# Altium integrated library TI_Logic_Specialty_Logic.IntLib: 2504 symbols (part 21 of 81)
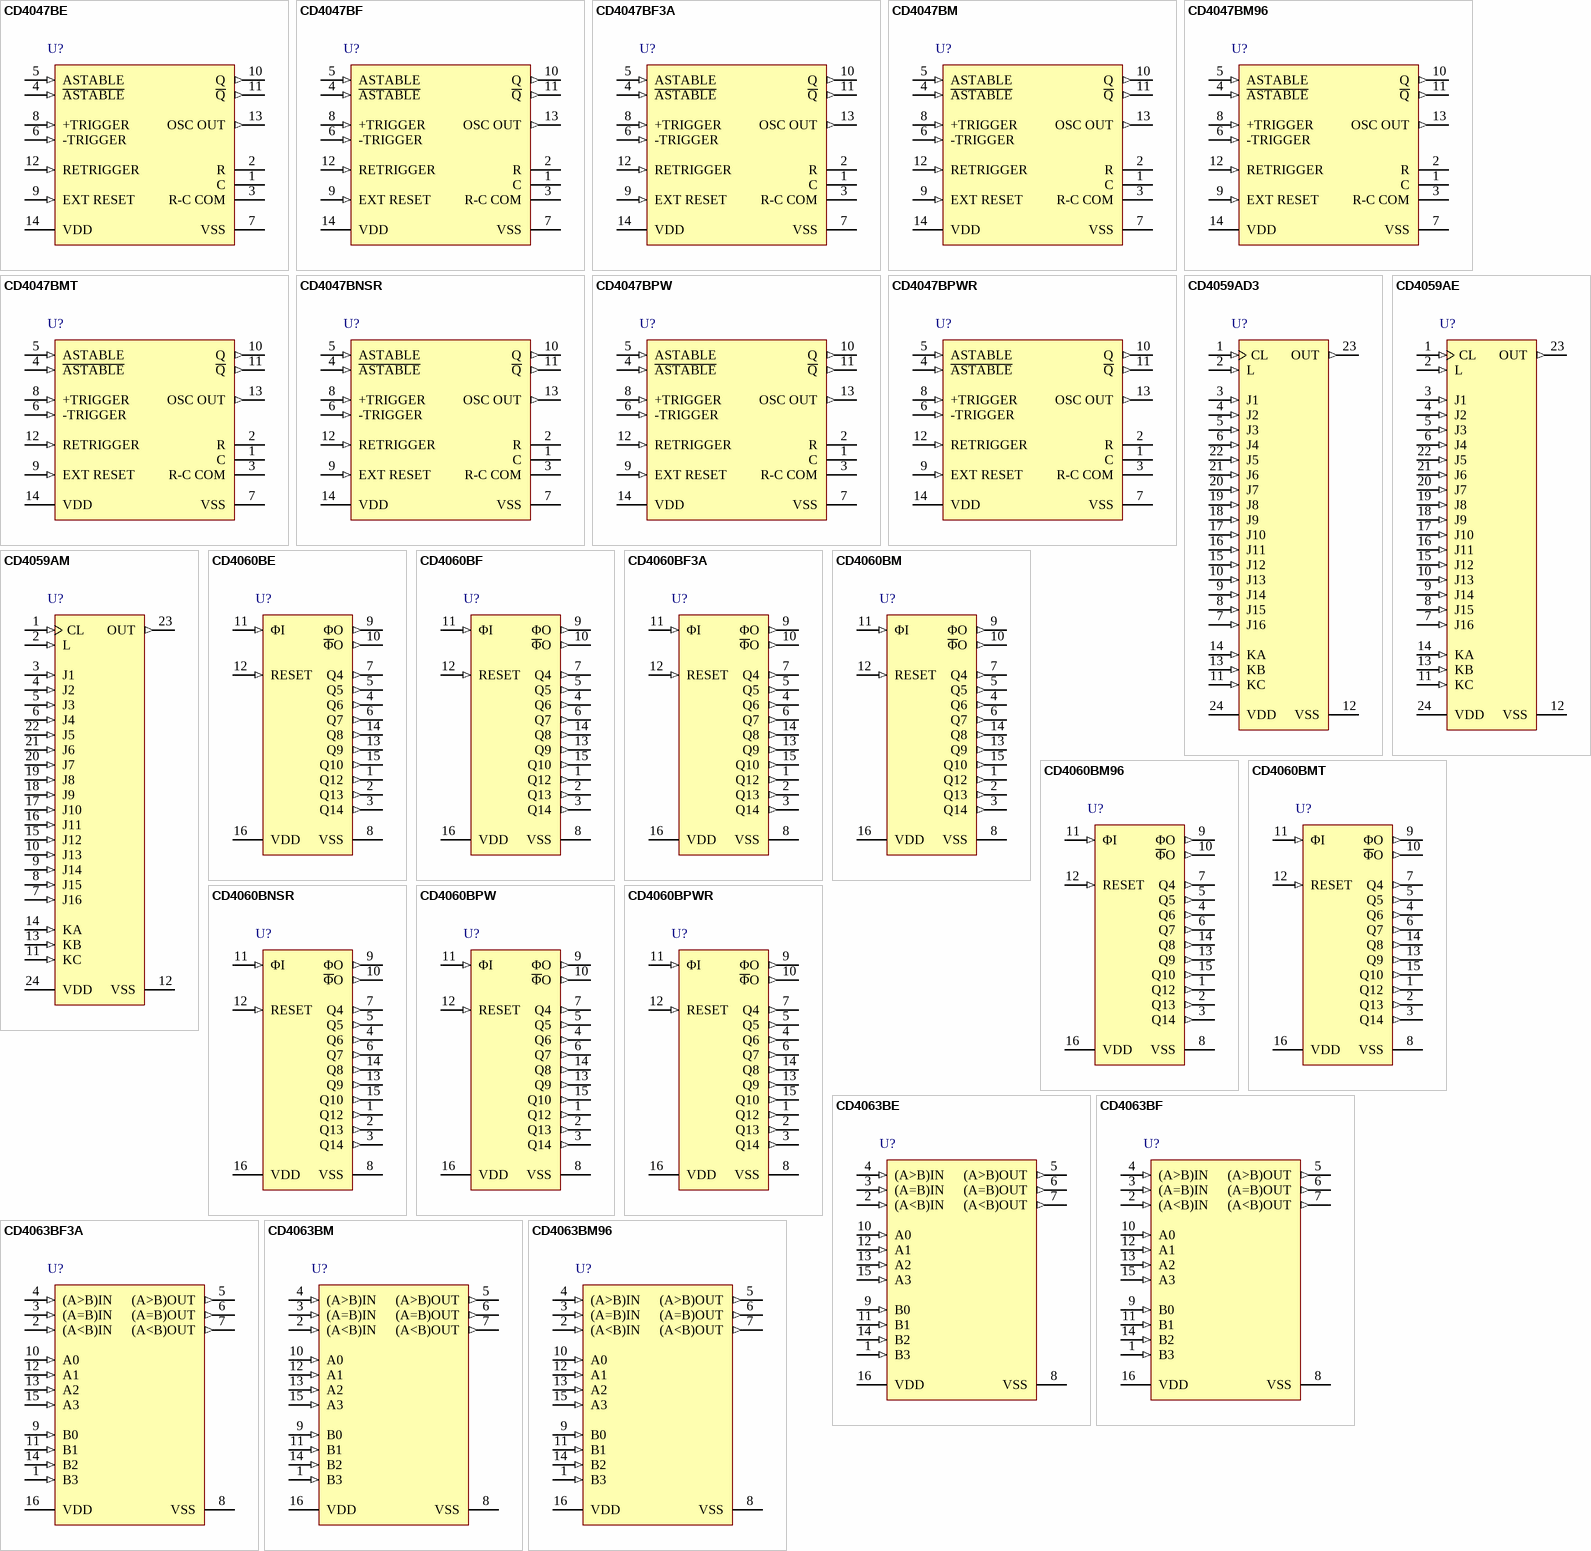
[diagram p124: symbols CD4047BE to CD4063BM96]

## CD4047BMT
designator U?
CMOS Low-Power Monostable/Astable Multivibrator, D0014A, SMALL T&R; Generic Part Number: CD4047B; Manufacturer: Texas Instruments; PartNumber: CD4047BMT; VCC(Max)(V): 18; VCC(Min)(V): 3; ICC @ Nom Voltage(Max)(mA): 0.06; Bits(#): 1; F @ Nom Voltage(Max)(Mhz): 8; Rating: Military; Technology Family: CD4000; Voltage(Nom)(V): 10; Output Drive (IOL/IOH)(Max)(mA): 4/-4; tpd @ Nom Voltage(Max)(ns): 450; DatasheetVersion: SCHS044C; PackageReference: D0014A; Supplier 1: Mouser; Supplier Part Number 1: 595-CD4047BMT; Supplier 2: Digi-Key; Supplier Part Number 2: CD4047BMT-ND; Output Type: CMOS; Input Type: CMOS; Operating Temperature Range(C): -55 to 125; Code_JEDEC: MS-012; ComponentLink1Description: Manufacturer URL; ComponentLink1URL: http://www.ti.com/; ComponentLink2Description: Datasheet; ComponentLink2URL: http://www.ti.com/lit/ds/symlink/cd4047b.pdf; ComponentLink3Description: Package Specification; ComponentLink3URL: http://www.ti.com/lit/ml/mpds177g/mpds177g.pdf
footprint D0014A_N (SOIC, 14-Leads, Body 8.75x4mm, Pitch 1.27mm, IPC Medium Density)
footprint D0014A_M (SOIC, 14-Leads, Body 8.75x4mm, Pitch 1.27mm, IPC Low Density)
footprint D0014A_L (SOIC, 14-Leads, Body 8.75x4mm, Pitch 1.27mm, IPC High Density)
pins: 1 C, 2 R, 3 R-C COM, 4 ~{ASTABLE} (in), 5 ASTABLE (in), 6 -TRIGGER (in), 7 VSS (power), 8 +TRIGGER (in), 9 EXT RESET (in), 10 Q (out), 11 ~{Q} (out), 12 RETRIGGER (in), 13 OSC OUT (out), 14 VDD (power)

## CD4047BNSR
designator U?
CMOS Low-Power Monostable/Astable Multivibrator, NS0014A, LARGE T&R; Generic Part Number: CD4047B; Manufacturer: Texas Instruments; PartNumber: CD4047BNSR; VCC(Max)(V): 18; VCC(Min)(V): 3; ICC @ Nom Voltage(Max)(mA): 0.06; Bits(#): 1; F @ Nom Voltage(Max)(Mhz): 8; Rating: Military; Technology Family: CD4000; Voltage(Nom)(V): 10; Output Drive (IOL/IOH)(Max)(mA): 4/-4; tpd @ Nom Voltage(Max)(ns): 450; DatasheetVersion: SCHS044C; PackageReference: NS0014A; Supplier 1: Mouser; Supplier Part Number 1: 595-CD4047BNSR; Supplier 2: Digi-Key; Supplier Part Number 2: 296-14110-2-ND; Supplier 3: Digi-Key; Supplier Part Number 3: 296-14110-1-ND; Supplier 4: Digi-Key; Supplier Part Number 4: 296-14110-6-ND; Output Type: CMOS; Input Type: CMOS; Operating Temperature Range(C): -55 to 125; ComponentLink1Description: Manufacturer URL; ComponentLink1URL: http://www.ti.com/; ComponentLink2Description: Datasheet; ComponentLink2URL: http://www.ti.com/lit/ds/symlink/cd4047b.pdf; ComponentLink3Description: Package Specification; ComponentLink3URL: http://www.ti.com/lit/ml/msop002a/msop002a.pdf
footprint NS0014A_N (SOIC,14-Leads,Body 10.5x5.6mm,Pitch 1.27mm,IPC Medium Density)
footprint NS0014A_M (SOIC,14-Leads,Body 10.5x5.6mm,Pitch 1.27mm,IPC Low Density)
footprint NS0014A_L (SOIC,14-Leads,Body 10.5x5.6mm,Pitch 0.4mm,IPC High Density)
pins: 1 C, 2 R, 3 R-C COM, 4 ~{ASTABLE} (in), 5 ASTABLE (in), 6 -TRIGGER (in), 7 VSS (power), 8 +TRIGGER (in), 9 EXT RESET (in), 10 Q (out), 11 ~{Q} (out), 12 RETRIGGER (in), 13 OSC OUT (out), 14 VDD (power)

## CD4047BPW
designator U?
CMOS Low-Power Monostable/Astable Multivibrator, PW0014A, TUBE; Generic Part Number: CD4047B; Manufacturer: Texas Instruments; PartNumber: CD4047BPW; VCC(Max)(V): 18; VCC(Min)(V): 3; ICC @ Nom Voltage(Max)(mA): 0.06; Bits(#): 1; F @ Nom Voltage(Max)(Mhz): 8; Rating: Military; Technology Family: CD4000; Voltage(Nom)(V): 10; Output Drive (IOL/IOH)(Max)(mA): 4/-4; tpd @ Nom Voltage(Max)(ns): 450; DatasheetVersion: SCHS044C; PackageReference: PW0014A; Supplier 1: Mouser; Supplier Part Number 1: 595-CD4047BPW; Supplier 2: Digi-Key; Supplier Part Number 2: 296-32890-5-ND; Output Type: CMOS; Input Type: CMOS; Operating Temperature Range(C): -55 to 125; Code_JEDEC: MO-153; ComponentLink1Description: Manufacturer URL; ComponentLink1URL: http://www.ti.com/; ComponentLink2Description: Datasheet; ComponentLink2URL: http://www.ti.com/lit/ds/symlink/cd4047b.pdf; ComponentLink3Description: Package Specification; ComponentLink3URL: http://www.ti.com/lit/ml/mpds360/mpds360.pdf
footprint PW0014A_N (SOP, 14-Leads, Body 5.1x4.5mm, Pitch 0.65mm, IPC Medium Density)
footprint PW0014A_M (SOP, 14-Leads, Body 5.1x4.5mm, Pitch 0.65mm, IPC Low Density)
footprint PW0014A_L (SOP, 14-Leads, Body 5.1x4.5mm, Pitch 0.65mm, IPC High Density)
pins: 1 C, 2 R, 3 R-C COM, 4 ~{ASTABLE} (in), 5 ASTABLE (in), 6 -TRIGGER (in), 7 VSS (power), 8 +TRIGGER (in), 9 EXT RESET (in), 10 Q (out), 11 ~{Q} (out), 12 RETRIGGER (in), 13 OSC OUT (out), 14 VDD (power)

## CD4047BPWR
designator U?
CMOS Low-Power Monostable/Astable Multivibrator, PW0014A, LARGE T&R; Generic Part Number: CD4047B; Manufacturer: Texas Instruments; PartNumber: CD4047BPWR; VCC(Max)(V): 18; VCC(Min)(V): 3; ICC @ Nom Voltage(Max)(mA): 0.06; Bits(#): 1; F @ Nom Voltage(Max)(Mhz): 8; Rating: Military; Technology Family: CD4000; Voltage(Nom)(V): 10; Output Drive (IOL/IOH)(Max)(mA): 4/-4; tpd @ Nom Voltage(Max)(ns): 450; DatasheetVersion: SCHS044C; PackageReference: PW0014A; Supplier 1: Mouser; Supplier Part Number 1: 595-CD4047BPWR; Supplier 2: Digi-Key; Supplier Part Number 2: 296-13642-2-ND; Supplier 3: Digi-Key; Supplier Part Number 3: 296-13642-1-ND; Supplier 4: Digi-Key; Supplier Part Number 4: 296-13642-6-ND; Output Type: CMOS; Input Type: CMOS; Operating Temperature Range(C): -55 to 125; Code_JEDEC: MO-153; ComponentLink1Description: Manufacturer URL; ComponentLink1URL: http://www.ti.com/; ComponentLink2Description: Datasheet; ComponentLink2URL: http://www.ti.com/lit/ds/symlink/cd4047b.pdf; ComponentLink3Description: Package Specification; ComponentLink3URL: http://www.ti.com/lit/ml/mpds360/mpds360.pdf
footprint PW0014A_N (SOP, 14-Leads, Body 5.1x4.5mm, Pitch 0.65mm, IPC Medium Density)
footprint PW0014A_M (SOP, 14-Leads, Body 5.1x4.5mm, Pitch 0.65mm, IPC Low Density)
footprint PW0014A_L (SOP, 14-Leads, Body 5.1x4.5mm, Pitch 0.65mm, IPC High Density)
pins: 1 C, 2 R, 3 R-C COM, 4 ~{ASTABLE} (in), 5 ASTABLE (in), 6 -TRIGGER (in), 7 VSS (power), 8 +TRIGGER (in), 9 EXT RESET (in), 10 Q (out), 11 ~{Q} (out), 12 RETRIGGER (in), 13 OSC OUT (out), 14 VDD (power)

## CD4059AD3
designator U?
CMOS Programmable Divide-by-N Counter, JD0024A, TUBE; Generic Part Number: CD4059A-MIL; Manufacturer: Texas Instruments; PartNumber: CD4059AD3; VCC(Max)(V): 18; VCC(Min)(V): 3; Inputs: 1; ICC @ Nom Voltage(Max)(mA): 0.03; F @ Nom Voltage(Max)(Mhz): 8; Rating: Military; Technology Family: CD4000; Voltage(Nom)(V): 10; Schmitt Trigger: No; Output Drive (IOL/IOH)(Max)(mA): 1.5/-1.5; tpd @ Nom Voltage(Max)(ns): 180; DatasheetVersion: SCHS109B; PackageReference: JD0024A; Output Type: CMOS; Function: Counter; Input Type: CMOS; Bits(#): 1; Operating Temperature Range(C): -55 to 125; Type: Other; ComponentLink1Description: Manufacturer URL; ComponentLink1URL: http://www.ti.com/; ComponentLink2Description: Datasheet; ComponentLink2URL: http://www.ti.com/lit/ds/symlink/cd4059a-mil.pdf; ComponentLink3Description: Package Specification; ComponentLink3URL: http://www.ti.com/lit/ds/symlink/sn54hc04-die.pdf
footprint JD0024A (DIP, 24-Leads, Body 7.2x27.95mm, Pitch 2.54mm)
pins: 1 CL (in), 2 L (in), 3 J1 (in), 4 J2 (in), 5 J3 (in), 6 J4 (in), 7 J16 (in), 8 J15 (in), 9 J14 (in), 10 J13 (in), 11 KC (in), 12 VSS (power), 13 KB (in), 14 KA (in), 15 J12 (in), 16 J11 (in), 17 J10 (in), 18 J9 (in), 19 J8 (in), 20 J7 (in), 21 J6 (in), 22 J5 (in), 23 OUT (out), 24 VDD (power)

## CD4059AE
designator U?
CMOS Programmable Divide-by-N Counter, N0024A, TUBE; Generic Part Number: CD4059A; Manufacturer: Texas Instruments; PartNumber: CD4059AE; VCC(Max)(V): 18; VCC(Min)(V): 3; Inputs: 1; ICC @ Nom Voltage(Max)(mA): 0.03; F @ Nom Voltage(Max)(Mhz): 8; Rating: Catalog; Technology Family: CD4000; Voltage(Nom)(V): 5,10,15; Schmitt Trigger: No; Output Drive (IOL/IOH)(Max)(mA): 1.5/-1.5; tpd @ Nom Voltage(Max)(ns): 180; DatasheetVersion: SCHS109B; PackageReference: N0024A; Supplier 1: Mouser; Supplier Part Number 1: 595-CD4059AE; Supplier 2: Digi-Key; Supplier Part Number 2: 296-3515-5-ND; Output Type: CMOS; Function: Counter; Input Type: CMOS; Bits(#): 1; Operating Temperature Range(C): -55 to 125; Type: Other; Code_JEDEC: MS-011; ComponentLink1Description: Manufacturer URL; ComponentLink1URL: http://www.ti.com/; ComponentLink2Description: Datasheet; ComponentLink2URL: http://www.ti.com/lit/ds/symlink/cd4059a.pdf; ComponentLink3Description: Package Specification; ComponentLink3URL: http://www.ti.com/lit/ml/mpdi008/mpdi008.pdf
footprint N0024A (DIP, 24-Leads, Body 32.25x14.2mm, Pitch 2.54mm)
pins: 1 CL (in), 2 L (in), 3 J1 (in), 4 J2 (in), 5 J3 (in), 6 J4 (in), 7 J16 (in), 8 J15 (in), 9 J14 (in), 10 J13 (in), 11 KC (in), 12 VSS (power), 13 KB (in), 14 KA (in), 15 J12 (in), 16 J11 (in), 17 J10 (in), 18 J9 (in), 19 J8 (in), 20 J7 (in), 21 J6 (in), 22 J5 (in), 23 OUT (out), 24 VDD (power)

## CD4059AM
designator U?
CMOS Programmable Divide-by-N Counter, DW0024A, TUBE; Generic Part Number: CD4059A; Manufacturer: Texas Instruments; PartNumber: CD4059AM; VCC(Max)(V): 18; VCC(Min)(V): 3; Inputs: 1; ICC @ Nom Voltage(Max)(mA): 0.03; F @ Nom Voltage(Max)(Mhz): 8; Rating: Catalog; Technology Family: CD4000; Voltage(Nom)(V): 5,10,15; Schmitt Trigger: No; Output Drive (IOL/IOH)(Max)(mA): 1.5/-1.5; tpd @ Nom Voltage(Max)(ns): 180; DatasheetVersion: SCHS109B; PackageReference: DW0024A; Supplier 1: Mouser; Supplier Part Number 1: 595-CD4059AM; Supplier 2: Digi-Key; Supplier Part Number 2: 296-32901-5-ND; Output Type: CMOS; Function: Counter; Input Type: CMOS; Bits(#): 1; Operating Temperature Range(C): -55 to 125; Type: Other; Code_JEDEC: MS-013; ComponentLink1Description: Manufacturer URL; ComponentLink1URL: http://www.ti.com/; ComponentLink2Description: Datasheet; ComponentLink2URL: http://www.ti.com/lit/ds/symlink/cd4059a.pdf; ComponentLink3Description: Package Specification; ComponentLink3URL: http://www.ti.com/lit/ml/mpds174a/mpds174a.pdf
footprint DW0024A_N (SOIC, 24-Leads, Body 15.6x7.6mm, Pitch 1.27mm, IPC Medium Density)
footprint DW0024A_M (SOIC, 24-Leads, Body 15.6x7.6mm, Pitch 1.27mm, IPC Low Density)
footprint DW0024A_L (SOIC, 24-Leads, Body 15.6x7.6mm, Pitch 1.27mm, IPC High Density)
pins: 1 CL (in), 2 L (in), 3 J1 (in), 4 J2 (in), 5 J3 (in), 6 J4 (in), 7 J16 (in), 8 J15 (in), 9 J14 (in), 10 J13 (in), 11 KC (in), 12 VSS (power), 13 KB (in), 14 KA (in), 15 J12 (in), 16 J11 (in), 17 J10 (in), 18 J9 (in), 19 J8 (in), 20 J7 (in), 21 J6 (in), 22 J5 (in), 23 OUT (out), 24 VDD (power)

## CD4060BE
designator U?
CMOS 14-Stage Ripple-Carry Binary Counter/Divider and Oscillator, N0016A, TUBE; Generic Part Number: CD4060B; Manufacturer: Texas Instruments; PartNumber: CD4060BE; VCC(Max)(V): 18; VCC(Min)(V): 3; Inputs: 1; ICC @ Nom Voltage(Max)(mA): 0.03; Bits(#): 10; F @ Nom Voltage(Max)(Mhz): 8; Rating: Military; Technology Family: CD4000; Schmitt Trigger: No; Output Drive (IOL/IOH)(Max)(mA): 1.5/-1.5; tpd @ Nom Voltage(Max)(ns): 300; DatasheetVersion: SCHS049C; PackageReference: N0016A; Supplier 1: Mouser; Supplier Part Number 1: 595-CD4060BE; Supplier 2: Digi-Key; Supplier Part Number 2: 296-2060-5-ND; Output Type: CMOS; Function: Counter; Input Type: CMOS; Operating Temperature Range(C): -55 to 125; Type: Binary; Voltage(Nom)(V): 10; Code_JEDEC: MS-001; ComponentLink1Description: Manufacturer URL; ComponentLink1URL: http://www.ti.com/; ComponentLink2Description: Datasheet; ComponentLink2URL: http://www.ti.com/lit/ds/symlink/cd4060b.pdf; ComponentLink3Description: Package Specification; ComponentLink3URL: http://www.ti.com/lit/ml/mpdi002c/mpdi002c.pdf
footprint N0016A (DIP, 16-Leads, Body 19.7x6.6mm, Pitch 2.54mm)
pins: 1 Q12 (out), 2 Q13 (out), 3 Q14 (out), 4 Q6 (out), 5 Q5 (out), 6 Q7 (out), 7 Q4 (out), 8 VSS (power), 9 ΦO (out), 10 ~{Φ}O (out), 11 ΦI (in), 12 RESET (in), 13 Q9 (out), 14 Q8 (out), 15 Q10 (out), 16 VDD (power)

## CD4060BF
designator U?
CMOS 14-Stage Ripple-Carry Binary Counter/Divider and Oscillator, J0016A, TUBE; Generic Part Number: CD4060B-MIL; Manufacturer: Texas Instruments; PartNumber: CD4060BF; VCC(Max)(V): 18; VCC(Min)(V): 3; Inputs: 1; ICC @ Nom Voltage(Max)(mA): 0.03; Bits(#): 10; F @ Nom Voltage(Max)(Mhz): 8; Rating: Military; Technology Family: CD4000; Schmitt Trigger: No; Output Drive (IOL/IOH)(Max)(mA): 1.5/-1.5; tpd @ Nom Voltage(Max)(ns): 300; DatasheetVersion: SCHS049C; PackageReference: J0016A; Output Type: CMOS; Function: Counter; Input Type: CMOS; Operating Temperature Range(C): -55 to 125; Type: Binary; Voltage(Nom)(V): 10; ComponentLink1Description: Manufacturer URL; ComponentLink1URL: http://www.ti.com/; ComponentLink2Description: Datasheet; ComponentLink2URL: http://www.ti.com/lit/ds/symlink/cd4060b-mil.pdf; ComponentLink3Description: Package Specification; ComponentLink3URL: http://www.ti.com/lit/ml/mcer002d/mcer002d.pdf
footprint J0016A (DIP, 16-Leads, Body 21.35x7.2mm, Pitch 2.54mm)
pins: 1 Q12 (out), 2 Q13 (out), 3 Q14 (out), 4 Q6 (out), 5 Q5 (out), 6 Q7 (out), 7 Q4 (out), 8 VSS (power), 9 ΦO (out), 10 ~{Φ}O (out), 11 ΦI (in), 12 RESET (in), 13 Q9 (out), 14 Q8 (out), 15 Q10 (out), 16 VDD (power)

## CD4060BF3A
designator U?
CMOS 14-Stage Ripple-Carry Binary Counter/Divider and Oscillator, J0016A, TUBE; Generic Part Number: CD4060B-MIL; Manufacturer: Texas Instruments; PartNumber: CD4060BF3A; VCC(Max)(V): 18; VCC(Min)(V): 3; Inputs: 1; ICC @ Nom Voltage(Max)(mA): 0.03; Bits(#): 10; F @ Nom Voltage(Max)(Mhz): 8; Rating: Military; Technology Family: CD4000; Schmitt Trigger: No; Output Drive (IOL/IOH)(Max)(mA): 1.5/-1.5; tpd @ Nom Voltage(Max)(ns): 300; DatasheetVersion: SCHS049C; PackageReference: J0016A; Output Type: CMOS; Function: Counter; Input Type: CMOS; Operating Temperature Range(C): -55 to 125; Type: Binary; Voltage(Nom)(V): 10; ComponentLink1Description: Manufacturer URL; ComponentLink1URL: http://www.ti.com/; ComponentLink2Description: Datasheet; ComponentLink2URL: http://www.ti.com/lit/ds/symlink/cd4060b-mil.pdf; ComponentLink3Description: Package Specification; ComponentLink3URL: http://www.ti.com/lit/ml/mcer002d/mcer002d.pdf
footprint J0016A (DIP, 16-Leads, Body 21.35x7.2mm, Pitch 2.54mm)
pins: 1 Q12 (out), 2 Q13 (out), 3 Q14 (out), 4 Q6 (out), 5 Q5 (out), 6 Q7 (out), 7 Q4 (out), 8 VSS (power), 9 ΦO (out), 10 ~{Φ}O (out), 11 ΦI (in), 12 RESET (in), 13 Q9 (out), 14 Q8 (out), 15 Q10 (out), 16 VDD (power)

## CD4060BM
designator U?
CMOS 14-Stage Ripple-Carry Binary Counter/Divider and Oscillator, D0016A, TUBE; Generic Part Number: CD4060B; Manufacturer: Texas Instruments; PartNumber: CD4060BM; VCC(Max)(V): 18; VCC(Min)(V): 3; Inputs: 1; ICC @ Nom Voltage(Max)(mA): 0.03; Bits(#): 10; F @ Nom Voltage(Max)(Mhz): 8; Rating: Military; Technology Family: CD4000; Schmitt Trigger: No; Output Drive (IOL/IOH)(Max)(mA): 1.5/-1.5; tpd @ Nom Voltage(Max)(ns): 300; DatasheetVersion: SCHS049C; PackageReference: D0016A; Supplier 1: Mouser; Supplier Part Number 1: 595-CD4060BM; Supplier 2: Digi-Key; Supplier Part Number 2: 296-32902-5-ND; Output Type: CMOS; Function: Counter; Input Type: CMOS; Operating Temperature Range(C): -55 to 125; Type: Binary; Voltage(Nom)(V): 10; Code_JEDEC: MS-012 variation AC; ComponentLink1Description: Manufacturer URL; ComponentLink1URL: http://www.ti.com/; ComponentLink2Description: Datasheet; ComponentLink2URL: http://www.ti.com/lit/ds/symlink/cd4060b.pdf; ComponentLink3Description: Package Specification; ComponentLink3URL: http://www.ti.com/lit/ml/mpds178g/mpds178g.pdf
footprint D0016A_N (SOIC, 16-Leads, Body 10x4mm, Pitch 1.27mm, IPC Medium Density)
footprint D0016A_M (SOIC, 16-Leads, Body 10x4mm, Pitch 1.27mm, IPC Low Density)
footprint D0016A_L (SOIC, 16-Leads, Body 10x4mm, Pitch 1.27mm, IPC High Density)
pins: 1 Q12 (out), 2 Q13 (out), 3 Q14 (out), 4 Q6 (out), 5 Q5 (out), 6 Q7 (out), 7 Q4 (out), 8 VSS (power), 9 ΦO (out), 10 ~{Φ}O (out), 11 ΦI (in), 12 RESET (in), 13 Q9 (out), 14 Q8 (out), 15 Q10 (out), 16 VDD (power)

## CD4060BM96
designator U?
CMOS 14-Stage Ripple-Carry Binary Counter/Divider and Oscillator, D0016A, LARGE T&R; Generic Part Number: CD4060B; Manufacturer: Texas Instruments; PartNumber: CD4060BM96; VCC(Max)(V): 18; VCC(Min)(V): 3; Inputs: 1; ICC @ Nom Voltage(Max)(mA): 0.03; Bits(#): 10; F @ Nom Voltage(Max)(Mhz): 8; Rating: Military; Technology Family: CD4000; Schmitt Trigger: No; Output Drive (IOL/IOH)(Max)(mA): 1.5/-1.5; tpd @ Nom Voltage(Max)(ns): 300; DatasheetVersion: SCHS049C; PackageReference: D0016A; Supplier 1: Mouser; Supplier Part Number 1: 595-CD4060BM96; Supplier 2: Digi-Key; Supplier Part Number 2: 296-31513-2-ND; Supplier 3: Digi-Key; Supplier Part Number 3: 296-31513-1-ND; Supplier 4: Digi-Key; Supplier Part Number 4: 296-31513-6-ND; Output Type: CMOS; Function: Counter; Input Type: CMOS; Operating Temperature Range(C): -55 to 125; Type: Binary; Voltage(Nom)(V): 10; Code_JEDEC: MS-012 variation AC; ComponentLink1Description: Manufacturer URL; ComponentLink1URL: http://www.ti.com/; ComponentLink2Description: Datasheet; ComponentLink2URL: http://www.ti.com/lit/ds/symlink/cd4060b.pdf; ComponentLink3Description: Package Specification; ComponentLink3URL: http://www.ti.com/lit/ml/mpds178g/mpds178g.pdf
footprint D0016A_N (SOIC, 16-Leads, Body 10x4mm, Pitch 1.27mm, IPC Medium Density)
footprint D0016A_M (SOIC, 16-Leads, Body 10x4mm, Pitch 1.27mm, IPC Low Density)
footprint D0016A_L (SOIC, 16-Leads, Body 10x4mm, Pitch 1.27mm, IPC High Density)
pins: 1 Q12 (out), 2 Q13 (out), 3 Q14 (out), 4 Q6 (out), 5 Q5 (out), 6 Q7 (out), 7 Q4 (out), 8 VSS (power), 9 ΦO (out), 10 ~{Φ}O (out), 11 ΦI (in), 12 RESET (in), 13 Q9 (out), 14 Q8 (out), 15 Q10 (out), 16 VDD (power)

## CD4060BMT
designator U?
CMOS 14-Stage Ripple-Carry Binary Counter/Divider and Oscillator, D0016A, SMALL T&R; Generic Part Number: CD4060B; Manufacturer: Texas Instruments; PartNumber: CD4060BMT; VCC(Max)(V): 18; VCC(Min)(V): 3; Inputs: 1; ICC @ Nom Voltage(Max)(mA): 0.03; Bits(#): 10; F @ Nom Voltage(Max)(Mhz): 8; Rating: Military; Technology Family: CD4000; Schmitt Trigger: No; Output Drive (IOL/IOH)(Max)(mA): 1.5/-1.5; tpd @ Nom Voltage(Max)(ns): 300; DatasheetVersion: SCHS049C; PackageReference: D0016A; Supplier 1: Mouser; Supplier Part Number 1: 595-CD4060BMT; Supplier 2: Digi-Key; Supplier Part Number 2: CD4060BMT-ND; Output Type: CMOS; Function: Counter; Input Type: CMOS; Operating Temperature Range(C): -55 to 125; Type: Binary; Voltage(Nom)(V): 10; Code_JEDEC: MS-012 variation AC; ComponentLink1Description: Manufacturer URL; ComponentLink1URL: http://www.ti.com/; ComponentLink2Description: Datasheet; ComponentLink2URL: http://www.ti.com/lit/ds/symlink/cd4060b.pdf; ComponentLink3Description: Package Specification; ComponentLink3URL: http://www.ti.com/lit/ml/mpds178g/mpds178g.pdf
footprint D0016A_N (SOIC, 16-Leads, Body 10x4mm, Pitch 1.27mm, IPC Medium Density)
footprint D0016A_M (SOIC, 16-Leads, Body 10x4mm, Pitch 1.27mm, IPC Low Density)
footprint D0016A_L (SOIC, 16-Leads, Body 10x4mm, Pitch 1.27mm, IPC High Density)
pins: 1 Q12 (out), 2 Q13 (out), 3 Q14 (out), 4 Q6 (out), 5 Q5 (out), 6 Q7 (out), 7 Q4 (out), 8 VSS (power), 9 ΦO (out), 10 ~{Φ}O (out), 11 ΦI (in), 12 RESET (in), 13 Q9 (out), 14 Q8 (out), 15 Q10 (out), 16 VDD (power)

## CD4060BNSR
designator U?
CMOS 14-Stage Ripple-Carry Binary Counter/Divider and Oscillator, NS0016A, LARGE T&R; Generic Part Number: CD4060B; Manufacturer: Texas Instruments; PartNumber: CD4060BNSR; VCC(Max)(V): 18; VCC(Min)(V): 3; Inputs: 1; ICC @ Nom Voltage(Max)(mA): 0.03; Bits(#): 10; F @ Nom Voltage(Max)(Mhz): 8; Rating: Military; Technology Family: CD4000; Schmitt Trigger: No; Output Drive (IOL/IOH)(Max)(mA): 1.5/-1.5; tpd @ Nom Voltage(Max)(ns): 300; DatasheetVersion: SCHS049C; PackageReference: NS0016A; Supplier 1: Mouser; Supplier Part Number 1: 595-CD4060BNSR; Supplier 2: Digi-Key; Supplier Part Number 2: 296-28694-2-ND; Supplier 3: Digi-Key; Supplier Part Number 3: 296-28694-1-ND; Supplier 4: Digi-Key; Supplier Part Number 4: 296-28694-6-ND; Output Type: CMOS; Function: Counter; Input Type: CMOS; Operating Temperature Range(C): -55 to 125; Type: Binary; Voltage(Nom)(V): 10; ComponentLink1Description: Manufacturer URL; ComponentLink1URL: http://www.ti.com/; ComponentLink2Description: Datasheet; ComponentLink2URL: http://www.ti.com/lit/ds/symlink/cd4060b.pdf; ComponentLink3Description: Package Specification; ComponentLink3URL: http://www.ti.com/lit/ml/msop002a/msop002a.pdf
footprint NS0016A_N (SOIC,16-Leads,Body 10.5x5.6mm,Pitch 1.27mm,IPC Medium Density)
footprint NS0016A_M (SOIC,16-Leads,Body 10.5x5.6mm,Pitch 1.27mm,IPC Low Density)
footprint NS0016A_L (SOIC,16-Leads,Body 10.5x5.6mm,Pitch 1.27mm,IPC High Density)
pins: 1 Q12 (out), 2 Q13 (out), 3 Q14 (out), 4 Q6 (out), 5 Q5 (out), 6 Q7 (out), 7 Q4 (out), 8 VSS (power), 9 ΦO (out), 10 ~{Φ}O (out), 11 ΦI (in), 12 RESET (in), 13 Q9 (out), 14 Q8 (out), 15 Q10 (out), 16 VDD (power)

## CD4060BPW
designator U?
CMOS 14-Stage Ripple-Carry Binary Counter/Divider and Oscillator, PW0016A, TUBE; Generic Part Number: CD4060B; Manufacturer: Texas Instruments; PartNumber: CD4060BPW; VCC(Max)(V): 18; VCC(Min)(V): 3; Inputs: 1; ICC @ Nom Voltage(Max)(mA): 0.03; Bits(#): 10; F @ Nom Voltage(Max)(Mhz): 8; Rating: Military; Technology Family: CD4000; Schmitt Trigger: No; Output Drive (IOL/IOH)(Max)(mA): 1.5/-1.5; tpd @ Nom Voltage(Max)(ns): 300; DatasheetVersion: SCHS049C; PackageReference: PW0016A; Supplier 1: Mouser; Supplier Part Number 1: 595-CD4060BPW; Supplier 2: Digi-Key; Supplier Part Number 2: 296-41543-5-ND; Output Type: CMOS; Function: Counter; Input Type: CMOS; Operating Temperature Range(C): -55 to 125; Type: Binary; Voltage(Nom)(V): 10; Code_JEDEC: MO-153; ComponentLink1Description: Manufacturer URL; ComponentLink1URL: http://www.ti.com/; ComponentLink2Description: Datasheet; ComponentLink2URL: http://www.ti.com/lit/ds/symlink/cd4060b.pdf; ComponentLink3Description: Package Specification; ComponentLink3URL: http://www.ti.com/lit/ml/mpds361/mpds361.pdf
footprint PW0016A_N (SOP, 16-Leads, Body 5.1x4.5mm, Pitch 0.65mm, IPC Medium Density)
footprint PW0016A_M (SOP, 16-Leads, Body 5.1x4.5mm, Pitch 0.65mm, IPC Low Density)
footprint PW0016A_L (SOP, 16-Leads, Body 5.1x4.5mm, Pitch 0.65mm, IPC High Density)
pins: 1 Q12 (out), 2 Q13 (out), 3 Q14 (out), 4 Q6 (out), 5 Q5 (out), 6 Q7 (out), 7 Q4 (out), 8 VSS (power), 9 ΦO (out), 10 ~{Φ}O (out), 11 ΦI (in), 12 RESET (in), 13 Q9 (out), 14 Q8 (out), 15 Q10 (out), 16 VDD (power)

## CD4060BPWR
designator U?
CMOS 14-Stage Ripple-Carry Binary Counter/Divider and Oscillator, PW0016A, LARGE T&R; Generic Part Number: CD4060B; Manufacturer: Texas Instruments; PartNumber: CD4060BPWR; VCC(Max)(V): 18; VCC(Min)(V): 3; Inputs: 1; ICC @ Nom Voltage(Max)(mA): 0.03; Bits(#): 10; F @ Nom Voltage(Max)(Mhz): 8; Rating: Military; Technology Family: CD4000; Schmitt Trigger: No; Output Drive (IOL/IOH)(Max)(mA): 1.5/-1.5; tpd @ Nom Voltage(Max)(ns): 300; DatasheetVersion: SCHS049C; PackageReference: PW0016A; Supplier 1: Mouser; Supplier Part Number 1: 595-CD4060BPWR; Supplier 2: Digi-Key; Supplier Part Number 2: 296-14119-2-ND; Supplier 3: Digi-Key; Supplier Part Number 3: 296-14119-1-ND; Supplier 4: Digi-Key; Supplier Part Number 4: 296-14119-6-ND; Output Type: CMOS; Function: Counter; Input Type: CMOS; Operating Temperature Range(C): -55 to 125; Type: Binary; Voltage(Nom)(V): 10; Code_JEDEC: MO-153; ComponentLink1Description: Manufacturer URL; ComponentLink1URL: http://www.ti.com/; ComponentLink2Description: Datasheet; ComponentLink2URL: http://www.ti.com/lit/ds/symlink/cd4060b.pdf; ComponentLink3Description: Package Specification; ComponentLink3URL: http://www.ti.com/lit/ml/mpds361/mpds361.pdf
footprint PW0016A_N (SOP, 16-Leads, Body 5.1x4.5mm, Pitch 0.65mm, IPC Medium Density)
footprint PW0016A_M (SOP, 16-Leads, Body 5.1x4.5mm, Pitch 0.65mm, IPC Low Density)
footprint PW0016A_L (SOP, 16-Leads, Body 5.1x4.5mm, Pitch 0.65mm, IPC High Density)
pins: 1 Q12 (out), 2 Q13 (out), 3 Q14 (out), 4 Q6 (out), 5 Q5 (out), 6 Q7 (out), 7 Q4 (out), 8 VSS (power), 9 ΦO (out), 10 ~{Φ}O (out), 11 ΦI (in), 12 RESET (in), 13 Q9 (out), 14 Q8 (out), 15 Q10 (out), 16 VDD (power)

## CD4063BE
designator U?
4-Bit Magnitude Comparators, N0016A, TUBE; Generic Part Number: CD4063B; Manufacturer: Texas Instruments; PartNumber: CD4063BE; VCC(Max)(V): 18; VCC(Min)(V): 3; Output Type: CMOS; ICC @ Nom Voltage(Max)(mA): 0.3; Bits(#): 4; F @ Nom Voltage(Max)(Mhz): 8; Rating: Catalog; Technology Family: CD4000; Voltage(Nom)(V): 10; Schmitt Trigger: No; Output Drive (IOL/IOH)(Max)(mA): 4/-4; tpd @ Nom Voltage(Max)(ns): 500; DatasheetVersion: SCHS050C; PackageReference: N0016A; Supplier 1: Mouser; Supplier Part Number 1: 595-CD4063BE; Supplier 2: Digi-Key; Supplier Part Number 2: 296-14120-5-ND; Input Type: CMOS; Operating Temperature Range(C): -55 to 125; ComponentLink1Description: Manufacturer URL; ComponentLink1URL: http://www.ti.com/; ComponentLink2Description: Datasheet; ComponentLink2URL: http://www.ti.com/lit/ds/symlink/cd4063b.pdf
footprint N0016A (DIP, 16-Leads, Body 19.7x6.6mm, Pitch 2.54mm)
pins: 1 B3 (in), 2 (A<B)IN (in), 3 (A=B)IN (in), 4 (A>B)IN (in), 5 (A>B)OUT (out), 6 (A=B)OUT (out), 7 (A<B)OUT (out), 8 VSS (power), 9 B0 (in), 10 A0 (in), 11 B1 (in), 12 A1 (in), 13 A2 (in), 14 B2 (in), 15 A3 (in), 16 VDD (power)

## CD4063BF
designator U?
4-Bit Magnitude Comparators, J0016A, TUBE; Generic Part Number: CD4063B-MIL; Manufacturer: Texas Instruments; PartNumber: CD4063BF; VCC(Max)(V): 18; VCC(Min)(V): 3; Output Type: CMOS; ICC @ Nom Voltage(Max)(mA): 0.3; Bits(#): 4; F @ Nom Voltage(Max)(Mhz): 8; Rating: Military; Technology Family: CD4000; Voltage(Nom)(V): 10; Output Drive (IOL/IOH)(Max)(mA): 4/-4; tpd @ Nom Voltage(Max)(ns): 500; DatasheetVersion: SCHS050C; PackageReference: J0016A; Input Type: CMOS; Operating Temperature Range(C): -55 to 125; ComponentLink1Description: Manufacturer URL; ComponentLink1URL: http://www.ti.com/; ComponentLink2Description: Datasheet; ComponentLink2URL: http://www.ti.com/lit/ds/symlink/cd4063b-mil.pdf
footprint J0016A (DIP, 16-Leads, Body 21.35x7.2mm, Pitch 2.54mm)
pins: 1 B3 (in), 2 (A<B)IN (in), 3 (A=B)IN (in), 4 (A>B)IN (in), 5 (A>B)OUT (out), 6 (A=B)OUT (out), 7 (A<B)OUT (out), 8 VSS (power), 9 B0 (in), 10 A0 (in), 11 B1 (in), 12 A1 (in), 13 A2 (in), 14 B2 (in), 15 A3 (in), 16 VDD (power)

## CD4063BF3A
designator U?
4-Bit Magnitude Comparators, J0016A, TUBE; Generic Part Number: CD4063B-MIL; Manufacturer: Texas Instruments; PartNumber: CD4063BF3A; VCC(Max)(V): 18; VCC(Min)(V): 3; Output Type: CMOS; ICC @ Nom Voltage(Max)(mA): 0.3; Bits(#): 4; F @ Nom Voltage(Max)(Mhz): 8; Rating: Military; Technology Family: CD4000; Voltage(Nom)(V): 10; Output Drive (IOL/IOH)(Max)(mA): 4/-4; tpd @ Nom Voltage(Max)(ns): 500; DatasheetVersion: SCHS050C; PackageReference: J0016A; Input Type: CMOS; Operating Temperature Range(C): -55 to 125; ComponentLink1Description: Manufacturer URL; ComponentLink1URL: http://www.ti.com/; ComponentLink2Description: Datasheet; ComponentLink2URL: http://www.ti.com/lit/ds/symlink/cd4063b-mil.pdf
footprint J0016A (DIP, 16-Leads, Body 21.35x7.2mm, Pitch 2.54mm)
pins: 1 B3 (in), 2 (A<B)IN (in), 3 (A=B)IN (in), 4 (A>B)IN (in), 5 (A>B)OUT (out), 6 (A=B)OUT (out), 7 (A<B)OUT (out), 8 VSS (power), 9 B0 (in), 10 A0 (in), 11 B1 (in), 12 A1 (in), 13 A2 (in), 14 B2 (in), 15 A3 (in), 16 VDD (power)

## CD4063BM
designator U?
4-Bit Magnitude Comparators, D0016A, TUBE; Generic Part Number: CD4063B; Manufacturer: Texas Instruments; PartNumber: CD4063BM; VCC(Max)(V): 18; VCC(Min)(V): 3; Output Type: CMOS; ICC @ Nom Voltage(Max)(mA): 0.3; Bits(#): 4; F @ Nom Voltage(Max)(Mhz): 8; Rating: Catalog; Technology Family: CD4000; Voltage(Nom)(V): 10; Schmitt Trigger: No; Output Drive (IOL/IOH)(Max)(mA): 4/-4; tpd @ Nom Voltage(Max)(ns): 500; DatasheetVersion: SCHS050C; PackageReference: D0016A; Supplier 1: Mouser; Supplier Part Number 1: 595-CD4063BM; Supplier 2: Digi-Key; Supplier Part Number 2: 296-32903-5-ND; Input Type: CMOS; Operating Temperature Range(C): -55 to 125; ComponentLink1Description: Manufacturer URL; ComponentLink1URL: http://www.ti.com/; ComponentLink2Description: Datasheet; ComponentLink2URL: http://www.ti.com/lit/ds/symlink/cd4063b.pdf
footprint D0016A_N (SOIC, 16-Leads, Body 10x4mm, Pitch 1.27mm, IPC Medium Density)
footprint D0016A_M (SOIC, 16-Leads, Body 10x4mm, Pitch 1.27mm, IPC Low Density)
footprint D0016A_L (SOIC, 16-Leads, Body 10x4mm, Pitch 1.27mm, IPC High Density)
pins: 1 B3 (in), 2 (A<B)IN (in), 3 (A=B)IN (in), 4 (A>B)IN (in), 5 (A>B)OUT (out), 6 (A=B)OUT (out), 7 (A<B)OUT (out), 8 VSS (power), 9 B0 (in), 10 A0 (in), 11 B1 (in), 12 A1 (in), 13 A2 (in), 14 B2 (in), 15 A3 (in), 16 VDD (power)

## CD4063BM96
designator U?
4-Bit Magnitude Comparators, D0016A, LARGE T&R; Generic Part Number: CD4063B; Manufacturer: Texas Instruments; PartNumber: CD4063BM96; VCC(Max)(V): 18; VCC(Min)(V): 3; Output Type: CMOS; ICC @ Nom Voltage(Max)(mA): 0.3; Bits(#): 4; F @ Nom Voltage(Max)(Mhz): 8; Rating: Catalog; Technology Family: CD4000; Voltage(Nom)(V): 10; Schmitt Trigger: No; Output Drive (IOL/IOH)(Max)(mA): 4/-4; tpd @ Nom Voltage(Max)(ns): 500; DatasheetVersion: SCHS050C; PackageReference: D0016A; Supplier 1: Mouser; Supplier Part Number 1: 595-CD4063BM96; Supplier 2: Digi-Key; Supplier Part Number 2: CD4063BM96-ND; Input Type: CMOS; Operating Temperature Range(C): -55 to 125; ComponentLink1Description: Manufacturer URL; ComponentLink1URL: http://www.ti.com/; ComponentLink2Description: Datasheet; ComponentLink2URL: http://www.ti.com/lit/ds/symlink/cd4063b.pdf
footprint D0016A_N (SOIC, 16-Leads, Body 10x4mm, Pitch 1.27mm, IPC Medium Density)
footprint D0016A_M (SOIC, 16-Leads, Body 10x4mm, Pitch 1.27mm, IPC Low Density)
footprint D0016A_L (SOIC, 16-Leads, Body 10x4mm, Pitch 1.27mm, IPC High Density)
pins: 1 B3 (in), 2 (A<B)IN (in), 3 (A=B)IN (in), 4 (A>B)IN (in), 5 (A>B)OUT (out), 6 (A=B)OUT (out), 7 (A<B)OUT (out), 8 VSS (power), 9 B0 (in), 10 A0 (in), 11 B1 (in), 12 A1 (in), 13 A2 (in), 14 B2 (in), 15 A3 (in), 16 VDD (power)

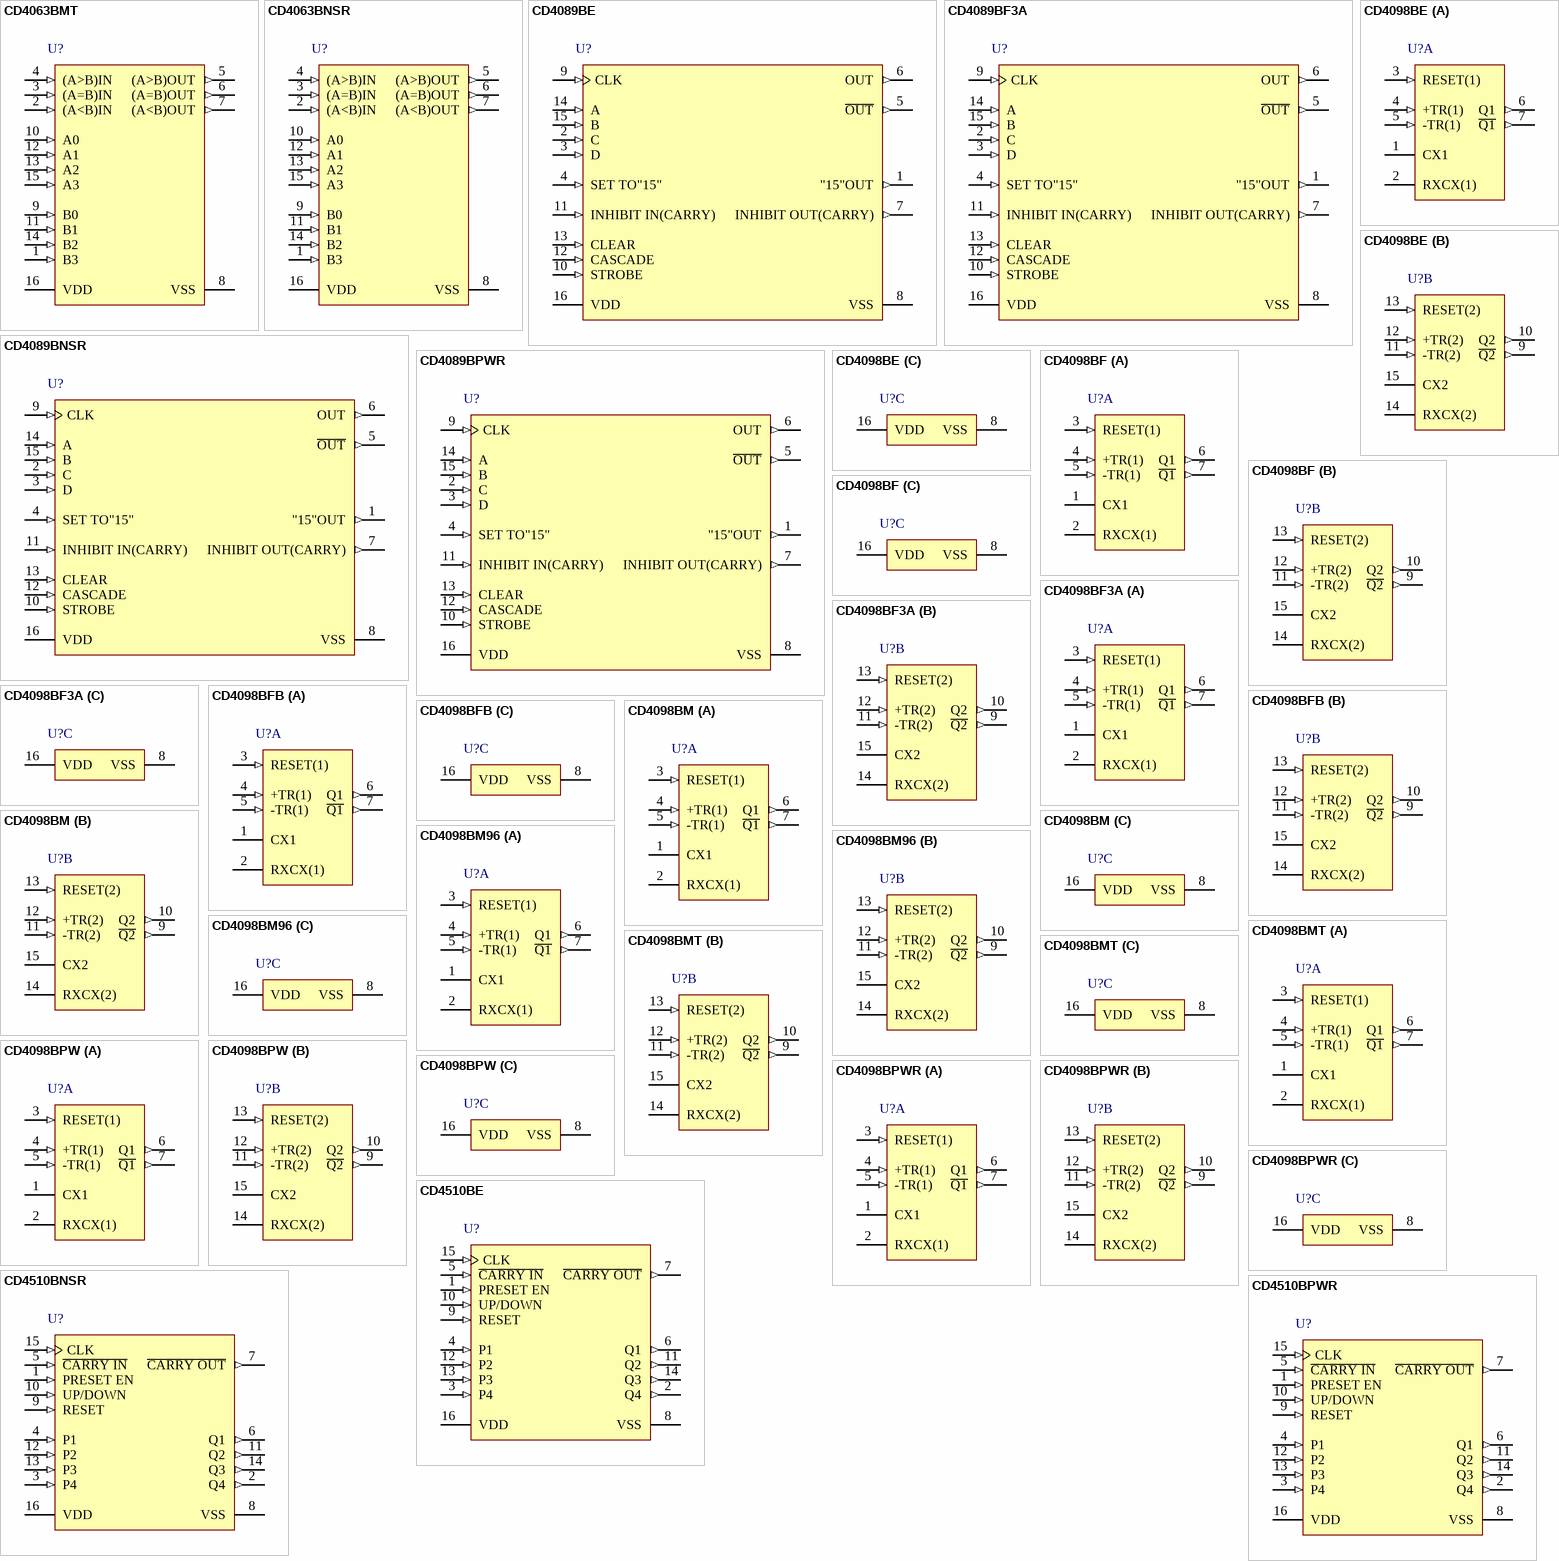
[diagram p27: symbols CD4063BMT to CD4510BPWR]

## CD4063BMT
designator U?
4-Bit Magnitude Comparators, D0016A, SMALL T&R; Generic Part Number: CD4063B; Manufacturer: Texas Instruments; PartNumber: CD4063BMT; VCC(Max)(V): 18; VCC(Min)(V): 3; Output Type: CMOS; ICC @ Nom Voltage(Max)(mA): 0.3; Bits(#): 4; F @ Nom Voltage(Max)(Mhz): 8; Rating: Catalog; Technology Family: CD4000; Voltage(Nom)(V): 10; Schmitt Trigger: No; Output Drive (IOL/IOH)(Max)(mA): 4/-4; tpd @ Nom Voltage(Max)(ns): 500; DatasheetVersion: SCHS050C; PackageReference: D0016A; Supplier 1: Mouser; Supplier Part Number 1: 595-CD4063BMT; Supplier 2: Digi-Key; Supplier Part Number 2: CD4063BMT-ND; Input Type: CMOS; Operating Temperature Range(C): -55 to 125; ComponentLink1Description: Manufacturer URL; ComponentLink1URL: http://www.ti.com/; ComponentLink2Description: Datasheet; ComponentLink2URL: http://www.ti.com/lit/ds/symlink/cd4063b.pdf
footprint D0016A_N (SOIC, 16-Leads, Body 10x4mm, Pitch 1.27mm, IPC Medium Density)
footprint D0016A_M (SOIC, 16-Leads, Body 10x4mm, Pitch 1.27mm, IPC Low Density)
footprint D0016A_L (SOIC, 16-Leads, Body 10x4mm, Pitch 1.27mm, IPC High Density)
pins: 1 B3 (in), 2 (A<B)IN (in), 3 (A=B)IN (in), 4 (A>B)IN (in), 5 (A>B)OUT (out), 6 (A=B)OUT (out), 7 (A<B)OUT (out), 8 VSS (power), 9 B0 (in), 10 A0 (in), 11 B1 (in), 12 A1 (in), 13 A2 (in), 14 B2 (in), 15 A3 (in), 16 VDD (power)

## CD4063BNSR
designator U?
4-Bit Magnitude Comparators, NS0016A, LARGE T&R; Generic Part Number: CD4063B; Manufacturer: Texas Instruments; PartNumber: CD4063BNSR; VCC(Max)(V): 18; VCC(Min)(V): 3; Output Type: CMOS; ICC @ Nom Voltage(Max)(mA): 0.3; Bits(#): 4; F @ Nom Voltage(Max)(Mhz): 8; Rating: Catalog; Technology Family: CD4000; Voltage(Nom)(V): 10; Schmitt Trigger: No; Output Drive (IOL/IOH)(Max)(mA): 4/-4; tpd @ Nom Voltage(Max)(ns): 500; DatasheetVersion: SCHS050C; PackageReference: NS0016A; Supplier 1: Mouser; Supplier Part Number 1: 595-CD4063BNSR; Supplier 2: Digi-Key; Supplier Part Number 2: 296-14121-2-ND; Supplier 3: Digi-Key; Supplier Part Number 3: 296-14121-1-ND; Supplier 4: Digi-Key; Supplier Part Number 4: 296-14121-6-ND; Input Type: CMOS; Operating Temperature Range(C): -55 to 125; ComponentLink1Description: Manufacturer URL; ComponentLink1URL: http://www.ti.com/; ComponentLink2Description: Datasheet; ComponentLink2URL: http://www.ti.com/lit/ds/symlink/cd4063b.pdf
footprint NS0016A_N (SOIC,16-Leads,Body 10.5x5.6mm,Pitch 1.27mm,IPC Medium Density)
footprint NS0016A_M (SOIC,16-Leads,Body 10.5x5.6mm,Pitch 1.27mm,IPC Low Density)
footprint NS0016A_L (SOIC,16-Leads,Body 10.5x5.6mm,Pitch 1.27mm,IPC High Density)
pins: 1 B3 (in), 2 (A<B)IN (in), 3 (A=B)IN (in), 4 (A>B)IN (in), 5 (A>B)OUT (out), 6 (A=B)OUT (out), 7 (A<B)OUT (out), 8 VSS (power), 9 B0 (in), 10 A0 (in), 11 B1 (in), 12 A1 (in), 13 A2 (in), 14 B2 (in), 15 A3 (in), 16 VDD (power)

## CD4089BE
designator U?
CMOS Binary Rate Multiplier, N0016A, TUBE; Generic Part Number: CD4089B; Manufacturer: Texas Instruments; PartNumber: CD4089BE; VCC(Max)(V): 18; VCC(Min)(V): 3; ICC @ Nom Voltage(Max)(mA): 0.3; Bits(#): 4; F @ Nom Voltage(Max)(Mhz): 8; Rating: Catalog; Technology Family: CD4000; Voltage(Nom)(V): 10; Schmitt Trigger: No; Output Drive (IOL/IOH)(Max)(mA): 4/-4; tpd @ Nom Voltage(Max)(ns): 110; DatasheetVersion: SCHS062B; PackageReference: N0016A; Supplier 1: Mouser; Supplier Part Number 1: 595-CD4089BE; Supplier 2: Digi-Key; Supplier Part Number 2: 296-2165-5-ND; Output Type: CMOS; Input Type: CMOS; Operating Temperature Range(C): -55 to 125; ComponentLink1Description: Manufacturer URL; ComponentLink1URL: http://www.ti.com/; ComponentLink2Description: Datasheet; ComponentLink2URL: http://www.ti.com/lit/ds/symlink/cd4089b.pdf
footprint N0016A (DIP, 16-Leads, Body 19.7x6.6mm, Pitch 2.54mm)
pins: 1 "15"OUT (out), 2 C (in), 3 D (in), 4 SET TO"15" (in), 5 ~{OUT} (out), 6 OUT (out), 7 INHIBIT OUT(CARRY) (out), 8 VSS (power), 9 CLK (in), 10 STROBE (in), 11 INHIBIT IN(CARRY) (in), 12 CASCADE (in), 13 CLEAR (in), 14 A (in), 15 B (in), 16 VDD (power)

## CD4089BF3A
designator U?
CMOS Binary Rate Multiplier, J0016A, TUBE; Generic Part Number: CD4089B-MIL; Manufacturer: Texas Instruments; PartNumber: CD4089BF3A; VCC(Max)(V): 18; VCC(Min)(V): 3; ICC @ Nom Voltage(Max)(mA): 0.3; Bits(#): 4; F @ Nom Voltage(Max)(Mhz): 8; Rating: Military; Technology Family: CD4000; Voltage(Nom)(V): 10; Output Drive (IOL/IOH)(Max)(mA): 4/-4; tpd @ Nom Voltage(Max)(ns): 110; DatasheetVersion: SCHS062B; PackageReference: J0016A; Output Type: CMOS; Input Type: CMOS; Operating Temperature Range(C): -55 to 125; ComponentLink1Description: Manufacturer URL; ComponentLink1URL: http://www.ti.com/; ComponentLink2Description: Datasheet; ComponentLink2URL: http://www.ti.com/lit/ds/symlink/cd4089b-mil.pdf
footprint J0016A (DIP, 16-Leads, Body 21.35x7.2mm, Pitch 2.54mm)
pins: 1 "15"OUT (out), 2 C (in), 3 D (in), 4 SET TO"15" (in), 5 ~{OUT} (out), 6 OUT (out), 7 INHIBIT OUT(CARRY) (out), 8 VSS (power), 9 CLK (in), 10 STROBE (in), 11 INHIBIT IN(CARRY) (in), 12 CASCADE (in), 13 CLEAR (in), 14 A (in), 15 B (in), 16 VDD (power)

## CD4089BNSR
designator U?
CMOS Binary Rate Multiplier, NS0016A, LARGE T&R; Generic Part Number: CD4089B; Manufacturer: Texas Instruments; PartNumber: CD4089BNSR; VCC(Max)(V): 18; VCC(Min)(V): 3; ICC @ Nom Voltage(Max)(mA): 0.3; Bits(#): 4; F @ Nom Voltage(Max)(Mhz): 8; Rating: Catalog; Technology Family: CD4000; Voltage(Nom)(V): 10; Schmitt Trigger: No; Output Drive (IOL/IOH)(Max)(mA): 4/-4; tpd @ Nom Voltage(Max)(ns): 110; DatasheetVersion: SCHS062B; PackageReference: NS0016A; Supplier 1: Mouser; Supplier Part Number 1: 595-CD4089BNSR; Supplier 2: Digi-Key; Supplier Part Number 2: 296-31526-2-ND; Supplier 3: Digi-Key; Supplier Part Number 3: 296-31526-1-ND; Supplier 4: Digi-Key; Supplier Part Number 4: 296-31526-6-ND; Output Type: CMOS; Input Type: CMOS; Operating Temperature Range(C): -55 to 125; ComponentLink1Description: Manufacturer URL; ComponentLink1URL: http://www.ti.com/; ComponentLink2Description: Datasheet; ComponentLink2URL: http://www.ti.com/lit/ds/symlink/cd4089b.pdf
footprint NS0016A_N (SOIC,16-Leads,Body 10.5x5.6mm,Pitch 1.27mm,IPC Medium Density)
footprint NS0016A_M (SOIC,16-Leads,Body 10.5x5.6mm,Pitch 1.27mm,IPC Low Density)
footprint NS0016A_L (SOIC,16-Leads,Body 10.5x5.6mm,Pitch 1.27mm,IPC High Density)
pins: 1 "15"OUT (out), 2 C (in), 3 D (in), 4 SET TO"15" (in), 5 ~{OUT} (out), 6 OUT (out), 7 INHIBIT OUT(CARRY) (out), 8 VSS (power), 9 CLK (in), 10 STROBE (in), 11 INHIBIT IN(CARRY) (in), 12 CASCADE (in), 13 CLEAR (in), 14 A (in), 15 B (in), 16 VDD (power)

## CD4089BPWR
designator U?
CMOS Binary Rate Multiplier, PW0016A, LARGE T&R; Generic Part Number: CD4089B; Manufacturer: Texas Instruments; PartNumber: CD4089BPWR; VCC(Max)(V): 18; VCC(Min)(V): 3; ICC @ Nom Voltage(Max)(mA): 0.3; Bits(#): 4; F @ Nom Voltage(Max)(Mhz): 8; Rating: Catalog; Technology Family: CD4000; Voltage(Nom)(V): 10; Schmitt Trigger: No; Output Drive (IOL/IOH)(Max)(mA): 4/-4; tpd @ Nom Voltage(Max)(ns): 110; DatasheetVersion: SCHS062B; PackageReference: PW0016A; Supplier 1: Mouser; Supplier Part Number 1: 595-CD4089BPWR; Supplier 2: Digi-Key; Supplier Part Number 2: 296-3523-2-ND; Supplier 3: Digi-Key; Supplier Part Number 3: 296-3523-1-ND; Supplier 4: Digi-Key; Supplier Part Number 4: 296-3523-6-ND; Output Type: CMOS; Input Type: CMOS; Operating Temperature Range(C): -55 to 125; ComponentLink1Description: Manufacturer URL; ComponentLink1URL: http://www.ti.com/; ComponentLink2Description: Datasheet; ComponentLink2URL: http://www.ti.com/lit/ds/symlink/cd4089b.pdf
footprint PW0016A_N (SOP, 16-Leads, Body 5.1x4.5mm, Pitch 0.65mm, IPC Medium Density)
footprint PW0016A_M (SOP, 16-Leads, Body 5.1x4.5mm, Pitch 0.65mm, IPC Low Density)
footprint PW0016A_L (SOP, 16-Leads, Body 5.1x4.5mm, Pitch 0.65mm, IPC High Density)
pins: 1 "15"OUT (out), 2 C (in), 3 D (in), 4 SET TO"15" (in), 5 ~{OUT} (out), 6 OUT (out), 7 INHIBIT OUT(CARRY) (out), 8 VSS (power), 9 CLK (in), 10 STROBE (in), 11 INHIBIT IN(CARRY) (in), 12 CASCADE (in), 13 CLEAR (in), 14 A (in), 15 B (in), 16 VDD (power)

## CD4098BE
designator U?
CMOS Dual Monostable Multivibrator, N0016A, TUBE; Generic Part Number: CD4098B; Manufacturer: Texas Instruments; PartNumber: CD4098BE; VCC(Max)(V): 18; VCC(Min)(V): 3; ICC @ Nom Voltage(Max)(mA): 0.06; Bits(#): 2; F @ Nom Voltage(Max)(Mhz): 8; Rating: Catalog; Technology Family: CD4000; Voltage(Nom)(V): 10; Schmitt Trigger: No; Output Drive (IOL/IOH)(Max)(mA): 4/-4; tpd @ Nom Voltage(Max)(ns): 250; DatasheetVersion: SCHS065C; PackageReference: N0016A; Supplier 1: Mouser; Supplier Part Number 1: 595-CD4098BE; Supplier 2: Digi-Key; Supplier Part Number 2: 296-3526-5-ND; Output Type: CMOS; Input Type: CMOS; Operating Temperature Range(C): -55 to 125; Code_JEDEC: MS-001; ComponentLink1Description: Manufacturer URL; ComponentLink1URL: http://www.ti.com/; ComponentLink2Description: Datasheet; ComponentLink2URL: http://www.ti.com/lit/ds/symlink/cd4098b.pdf; ComponentLink3Description: Package Specification; ComponentLink3URL: http://www.ti.com/lit/ml/mpdi002c/mpdi002c.pdf
footprint N0016A (DIP, 16-Leads, Body 19.7x6.6mm, Pitch 2.54mm)
part A pins: 1 CX1, 2 RXCX(1), 3 RESET(1) (in), 4 +TR(1) (in), 5 -TR(1) (in), 6 Q1 (out), 7 ~{Q1} (out)
part B pins: 9 ~{Q2} (out), 10 Q2 (out), 11 -TR(2) (in), 12 +TR(2) (in), 13 RESET(2) (in), 14 RXCX(2), 15 CX2
part C pins: 8 VSS (power), 16 VDD (power)

## CD4098BF
designator U?
CMOS Dual Monostable Multivibrator, J0016A, TUBE; Generic Part Number: CD4098B-MIL; Manufacturer: Texas Instruments; PartNumber: CD4098BF; VCC(Max)(V): 18; VCC(Min)(V): 3; ICC @ Nom Voltage(Max)(mA): 0.06; Bits(#): 2; F @ Nom Voltage(Max)(Mhz): 8; Rating: Military; Technology Family: CD4000; Output Drive (IOL/IOH)(Max)(mA): 4/-4; tpd @ Nom Voltage(Max)(ns): 250; DatasheetVersion: SCHS065C; PackageReference: J0016A; Output Type: CMOS; Input Type: CMOS; Operating Temperature Range(C): -55 to 125; ComponentLink1Description: Manufacturer URL; ComponentLink1URL: http://www.ti.com/; ComponentLink2Description: Datasheet; ComponentLink2URL: http://www.ti.com/lit/ds/symlink/cd4098b-mil.pdf; ComponentLink3Description: Package Specification; ComponentLink3URL: http://www.ti.com/lit/ml/mcer002d/mcer002d.pdf
footprint J0016A (DIP, 16-Leads, Body 21.35x7.2mm, Pitch 2.54mm)
part A pins: 1 CX1, 2 RXCX(1), 3 RESET(1) (in), 4 +TR(1) (in), 5 -TR(1) (in), 6 Q1 (out), 7 ~{Q1} (out)
part B pins: 9 ~{Q2} (out), 10 Q2 (out), 11 -TR(2) (in), 12 +TR(2) (in), 13 RESET(2) (in), 14 RXCX(2), 15 CX2
part C pins: 8 VSS (power), 16 VDD (power)

## CD4098BF3A
designator U?
CMOS Dual Monostable Multivibrator, J0016A, TUBE; Generic Part Number: CD4098B-MIL; Manufacturer: Texas Instruments; PartNumber: CD4098BF3A; VCC(Max)(V): 18; VCC(Min)(V): 3; ICC @ Nom Voltage(Max)(mA): 0.06; Bits(#): 2; F @ Nom Voltage(Max)(Mhz): 8; Rating: Military; Technology Family: CD4000; Output Drive (IOL/IOH)(Max)(mA): 4/-4; tpd @ Nom Voltage(Max)(ns): 250; DatasheetVersion: SCHS065C; PackageReference: J0016A; Output Type: CMOS; Input Type: CMOS; Operating Temperature Range(C): -55 to 125; ComponentLink1Description: Manufacturer URL; ComponentLink1URL: http://www.ti.com/; ComponentLink2Description: Datasheet; ComponentLink2URL: http://www.ti.com/lit/ds/symlink/cd4098b-mil.pdf; ComponentLink3Description: Package Specification; ComponentLink3URL: http://www.ti.com/lit/ml/mcer002d/mcer002d.pdf
footprint J0016A (DIP, 16-Leads, Body 21.35x7.2mm, Pitch 2.54mm)
part A pins: 1 CX1, 2 RXCX(1), 3 RESET(1) (in), 4 +TR(1) (in), 5 -TR(1) (in), 6 Q1 (out), 7 ~{Q1} (out)
part B pins: 9 ~{Q2} (out), 10 Q2 (out), 11 -TR(2) (in), 12 +TR(2) (in), 13 RESET(2) (in), 14 RXCX(2), 15 CX2
part C pins: 8 VSS (power), 16 VDD (power)

## CD4098BFB
designator U?
CMOS Dual Monostable Multivibrator, J0016A, TUBE; Generic Part Number: CD4098B-MIL; Manufacturer: Texas Instruments; PartNumber: CD4098BFB; VCC(Max)(V): 18; VCC(Min)(V): 3; ICC @ Nom Voltage(Max)(mA): 0.06; Bits(#): 2; F @ Nom Voltage(Max)(Mhz): 8; Rating: Military; Technology Family: CD4000; Output Drive (IOL/IOH)(Max)(mA): 4/-4; tpd @ Nom Voltage(Max)(ns): 250; DatasheetVersion: SCHS065C; PackageReference: J0016A; Output Type: CMOS; Input Type: CMOS; Operating Temperature Range(C): -55 to 125; ComponentLink1Description: Manufacturer URL; ComponentLink1URL: http://www.ti.com/; ComponentLink2Description: Datasheet; ComponentLink2URL: http://www.ti.com/lit/ds/symlink/cd4098b-mil.pdf; ComponentLink3Description: Package Specification; ComponentLink3URL: http://www.ti.com/lit/ml/mcer002d/mcer002d.pdf
footprint J0016A (DIP, 16-Leads, Body 21.35x7.2mm, Pitch 2.54mm)
part A pins: 1 CX1, 2 RXCX(1), 3 RESET(1) (in), 4 +TR(1) (in), 5 -TR(1) (in), 6 Q1 (out), 7 ~{Q1} (out)
part B pins: 9 ~{Q2} (out), 10 Q2 (out), 11 -TR(2) (in), 12 +TR(2) (in), 13 RESET(2) (in), 14 RXCX(2), 15 CX2
part C pins: 8 VSS (power), 16 VDD (power)

## CD4098BM
designator U?
CMOS Dual Monostable Multivibrator, D0016A, TUBE; Generic Part Number: CD4098B; Manufacturer: Texas Instruments; PartNumber: CD4098BM; VCC(Max)(V): 18; VCC(Min)(V): 3; ICC @ Nom Voltage(Max)(mA): 0.06; Bits(#): 2; F @ Nom Voltage(Max)(Mhz): 8; Rating: Catalog; Technology Family: CD4000; Voltage(Nom)(V): 10; Schmitt Trigger: No; Output Drive (IOL/IOH)(Max)(mA): 4/-4; tpd @ Nom Voltage(Max)(ns): 250; DatasheetVersion: SCHS065C; PackageReference: D0016A; Supplier 1: Mouser; Supplier Part Number 1: 595-CD4098BM; Supplier 2: Digi-Key; Supplier Part Number 2: 296-16736-5-ND; Output Type: CMOS; Input Type: CMOS; Operating Temperature Range(C): -55 to 125; Code_JEDEC: MS-012 variation AC; ComponentLink1Description: Manufacturer URL; ComponentLink1URL: http://www.ti.com/; ComponentLink2Description: Datasheet; ComponentLink2URL: http://www.ti.com/lit/ds/symlink/cd4098b.pdf; ComponentLink3Description: Package Specification; ComponentLink3URL: http://www.ti.com/lit/ml/mpds178g/mpds178g.pdf
footprint D0016A_N (SOIC, 16-Leads, Body 10x4mm, Pitch 1.27mm, IPC Medium Density)
footprint D0016A_M (SOIC, 16-Leads, Body 10x4mm, Pitch 1.27mm, IPC Low Density)
footprint D0016A_L (SOIC, 16-Leads, Body 10x4mm, Pitch 1.27mm, IPC High Density)
part A pins: 1 CX1, 2 RXCX(1), 3 RESET(1) (in), 4 +TR(1) (in), 5 -TR(1) (in), 6 Q1 (out), 7 ~{Q1} (out)
part B pins: 9 ~{Q2} (out), 10 Q2 (out), 11 -TR(2) (in), 12 +TR(2) (in), 13 RESET(2) (in), 14 RXCX(2), 15 CX2
part C pins: 8 VSS (power), 16 VDD (power)

## CD4098BM96
designator U?
CMOS Dual Monostable Multivibrator, D0016A, LARGE T&R; Generic Part Number: CD4098B; Manufacturer: Texas Instruments; PartNumber: CD4098BM96; VCC(Max)(V): 18; VCC(Min)(V): 3; ICC @ Nom Voltage(Max)(mA): 0.06; Bits(#): 2; F @ Nom Voltage(Max)(Mhz): 8; Rating: Catalog; Technology Family: CD4000; Voltage(Nom)(V): 10; Schmitt Trigger: No; Output Drive (IOL/IOH)(Max)(mA): 4/-4; tpd @ Nom Voltage(Max)(ns): 250; DatasheetVersion: SCHS065C; PackageReference: D0016A; Supplier 1: Mouser; Supplier Part Number 1: 595-CD4098BM96; Supplier 2: Digi-Key; Supplier Part Number 2: 296-38058-2-ND; Supplier 3: Digi-Key; Supplier Part Number 3: 296-38058-1-ND; Supplier 4: Digi-Key; Supplier Part Number 4: 296-38058-6-ND; Output Type: CMOS; Input Type: CMOS; Operating Temperature Range(C): -55 to 125; Code_JEDEC: MS-012 variation AC; ComponentLink1Description: Manufacturer URL; ComponentLink1URL: http://www.ti.com/; ComponentLink2Description: Datasheet; ComponentLink2URL: http://www.ti.com/lit/ds/symlink/cd4098b.pdf; ComponentLink3Description: Package Specification; ComponentLink3URL: http://www.ti.com/lit/ml/mpds178g/mpds178g.pdf
footprint D0016A_N (SOIC, 16-Leads, Body 10x4mm, Pitch 1.27mm, IPC Medium Density)
footprint D0016A_M (SOIC, 16-Leads, Body 10x4mm, Pitch 1.27mm, IPC Low Density)
footprint D0016A_L (SOIC, 16-Leads, Body 10x4mm, Pitch 1.27mm, IPC High Density)
part A pins: 1 CX1, 2 RXCX(1), 3 RESET(1) (in), 4 +TR(1) (in), 5 -TR(1) (in), 6 Q1 (out), 7 ~{Q1} (out)
part B pins: 9 ~{Q2} (out), 10 Q2 (out), 11 -TR(2) (in), 12 +TR(2) (in), 13 RESET(2) (in), 14 RXCX(2), 15 CX2
part C pins: 8 VSS (power), 16 VDD (power)

## CD4098BMT
designator U?
CMOS Dual Monostable Multivibrator, D0016A, SMALL T&R; Generic Part Number: CD4098B; Manufacturer: Texas Instruments; PartNumber: CD4098BMT; VCC(Max)(V): 18; VCC(Min)(V): 3; ICC @ Nom Voltage(Max)(mA): 0.06; Bits(#): 2; F @ Nom Voltage(Max)(Mhz): 8; Rating: Catalog; Technology Family: CD4000; Voltage(Nom)(V): 10; Schmitt Trigger: No; Output Drive (IOL/IOH)(Max)(mA): 4/-4; tpd @ Nom Voltage(Max)(ns): 250; DatasheetVersion: SCHS065C; PackageReference: D0016A; Supplier 1: Mouser; Supplier Part Number 1: 595-CD4098BMT; Supplier 2: Digi-Key; Supplier Part Number 2: CD4098BMT-ND; Output Type: CMOS; Input Type: CMOS; Operating Temperature Range(C): -55 to 125; Code_JEDEC: MS-012 variation AC; ComponentLink1Description: Manufacturer URL; ComponentLink1URL: http://www.ti.com/; ComponentLink2Description: Datasheet; ComponentLink2URL: http://www.ti.com/lit/ds/symlink/cd4098b.pdf; ComponentLink3Description: Package Specification; ComponentLink3URL: http://www.ti.com/lit/ml/mpds178g/mpds178g.pdf
footprint D0016A_N (SOIC, 16-Leads, Body 10x4mm, Pitch 1.27mm, IPC Medium Density)
footprint D0016A_M (SOIC, 16-Leads, Body 10x4mm, Pitch 1.27mm, IPC Low Density)
footprint D0016A_L (SOIC, 16-Leads, Body 10x4mm, Pitch 1.27mm, IPC High Density)
part A pins: 1 CX1, 2 RXCX(1), 3 RESET(1) (in), 4 +TR(1) (in), 5 -TR(1) (in), 6 Q1 (out), 7 ~{Q1} (out)
part B pins: 9 ~{Q2} (out), 10 Q2 (out), 11 -TR(2) (in), 12 +TR(2) (in), 13 RESET(2) (in), 14 RXCX(2), 15 CX2
part C pins: 8 VSS (power), 16 VDD (power)

## CD4098BPW
designator U?
CMOS Dual Monostable Multivibrator, PW0016A, TUBE; Generic Part Number: CD4098B; Manufacturer: Texas Instruments; PartNumber: CD4098BPW; VCC(Max)(V): 18; VCC(Min)(V): 3; ICC @ Nom Voltage(Max)(mA): 0.06; Bits(#): 2; F @ Nom Voltage(Max)(Mhz): 8; Rating: Catalog; Technology Family: CD4000; Voltage(Nom)(V): 10; Schmitt Trigger: No; Output Drive (IOL/IOH)(Max)(mA): 4/-4; tpd @ Nom Voltage(Max)(ns): 250; DatasheetVersion: SCHS065C; PackageReference: PW0016A; Supplier 1: Mouser; Supplier Part Number 1: 595-CD4098BPW; Supplier 2: Digi-Key; Supplier Part Number 2: 296-32917-5-ND; Output Type: CMOS; Input Type: CMOS; Operating Temperature Range(C): -55 to 125; Code_JEDEC: MO-153; ComponentLink1Description: Manufacturer URL; ComponentLink1URL: http://www.ti.com/; ComponentLink2Description: Datasheet; ComponentLink2URL: http://www.ti.com/lit/ds/symlink/cd4098b.pdf; ComponentLink3Description: Package Specification; ComponentLink3URL: http://www.ti.com/lit/ml/mpds361/mpds361.pdf
footprint PW0016A_N (SOP, 16-Leads, Body 5.1x4.5mm, Pitch 0.65mm, IPC Medium Density)
footprint PW0016A_M (SOP, 16-Leads, Body 5.1x4.5mm, Pitch 0.65mm, IPC Low Density)
footprint PW0016A_L (SOP, 16-Leads, Body 5.1x4.5mm, Pitch 0.65mm, IPC High Density)
part A pins: 1 CX1, 2 RXCX(1), 3 RESET(1) (in), 4 +TR(1) (in), 5 -TR(1) (in), 6 Q1 (out), 7 ~{Q1} (out)
part B pins: 9 ~{Q2} (out), 10 Q2 (out), 11 -TR(2) (in), 12 +TR(2) (in), 13 RESET(2) (in), 14 RXCX(2), 15 CX2
part C pins: 8 VSS (power), 16 VDD (power)